# Altium schematic symbol library RES_27R_0603.SchLib: 1 symbol
Pins are listed as number, name and electrical type; pins without a type are passive.

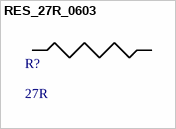
[diagram p0: symbol RES_27R_0603]

## RES_27R_0603
designator R?, comment 27R
footprint PCBComponent_1